# EAGLE library part LOGIC,AND/OR/MUX:SY55851(2:1,CML/PECL) (library QuantumOptics)
SY58051UM, CML/PECL Loose Logic, Micrel, configure as AND/OR/MUX. Be sure to connect centre pad to Com! http://www.micrel.com/_PDF/HBW/sy58051u.pdf
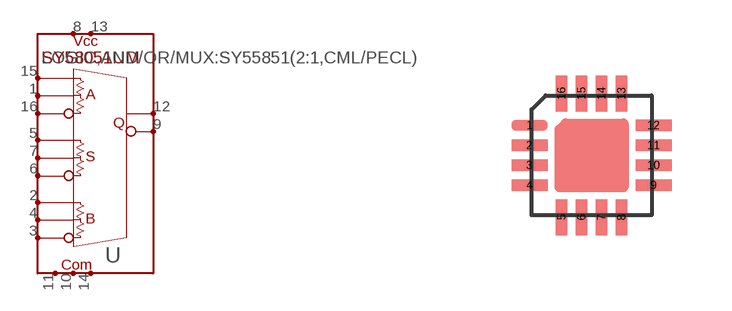
[diagram p91: symbol with the pads of MLF-16; footprint MLF-16]

Designator prefix U

## LOGIC,AND/OR/MUX:SY55851(2:1,CML/PECL)  [MLF-16]
1  AT  in
2  B  in
3  ~B  in
4  BT  in
5  S  in
6  ~S  in
7  ST  in
8  VCC1
9  ~Q  out
10  COM2
11  COM1
12  Q  out
13  VCC2
14  COM3
15  A  in
16  ~A  in

## Footprint MLF-16 (pad centres in mm)
MLF-16, Micro Lead Frame with 16 pins. NOTE: Must connect centre pad to bottom ground plane with at least 4 vias! Use grid of 0.5mm or 0.02". Based on Micrel SY88953L <http://www.micrel.com/_PDF/HBW/sy88953l.pdf#page=2>, http://www.micrel.com/_PDF/HBW/sy88953l.pdf#page=2
smd 0.9 x 0.29: 1 0,0; 2 0,-0.5; 3 0,-1; 4 0,-1.5; 9 3.1,-1.5; 10 3.1,-1; 11 3.1,-0.5; 12 3.1,0
smd 0.29 x 0.9: 5 0.8,-2.3; 6 1.3,-2.3; 7 1.8,-2.3; 8 2.3,-2.3; 13 2.3,0.8; 14 1.8,0.8; 15 1.3,0.8; 16 0.8,0.8